# EAGLE library part CY7C68013-100TQFP (library cypress-fx2)
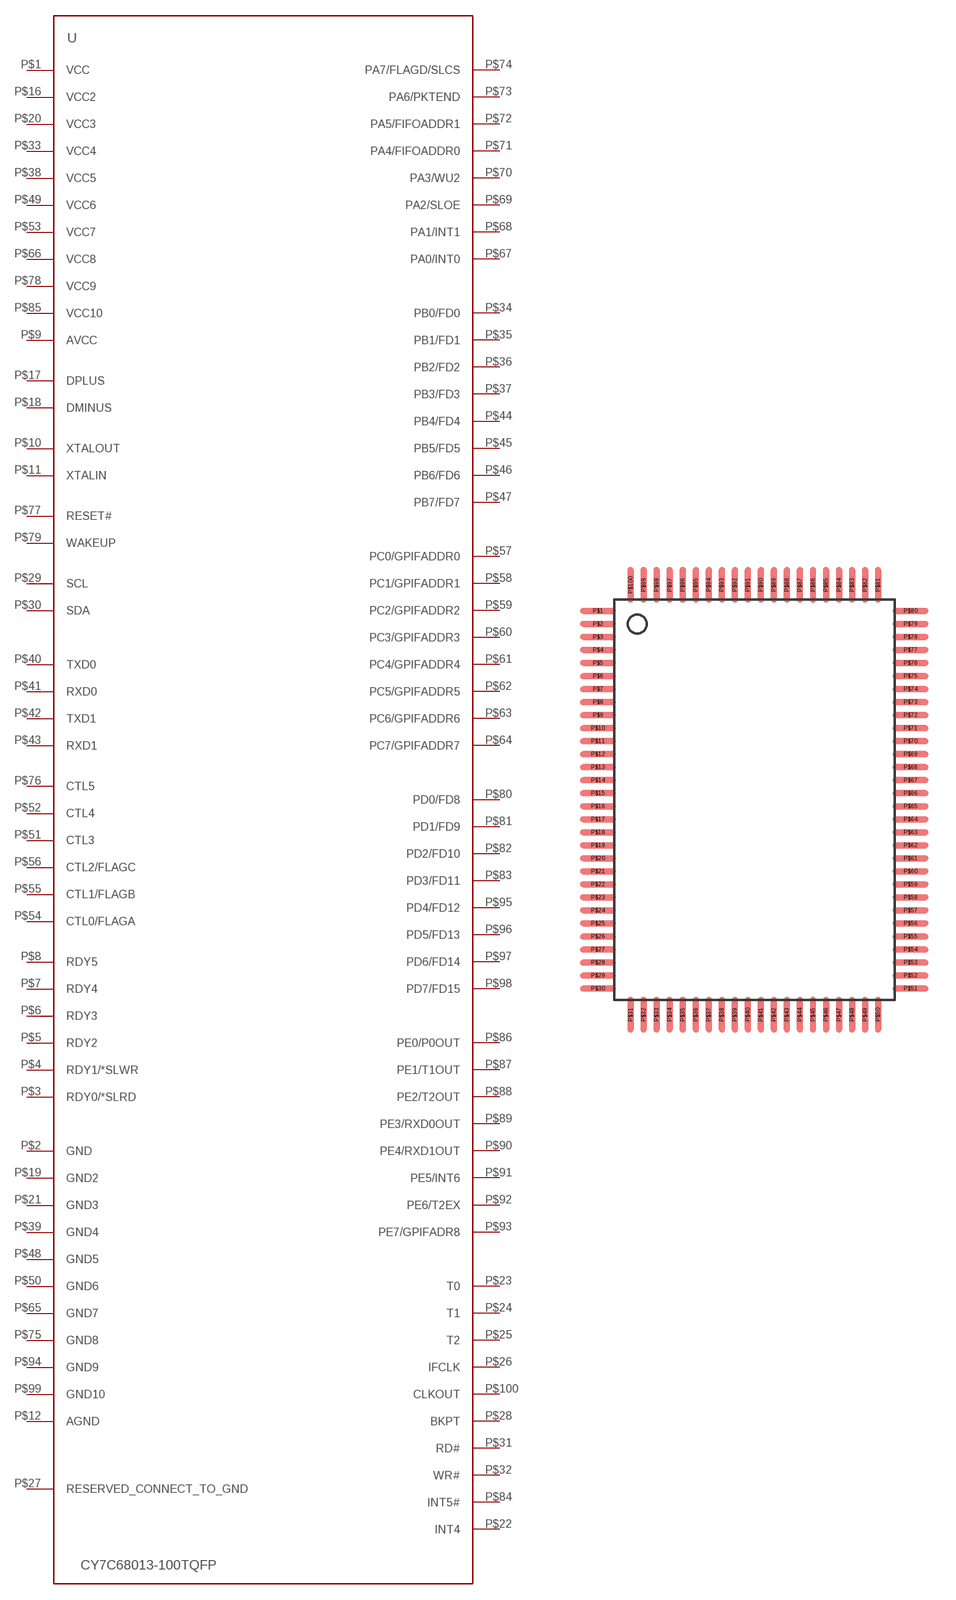
[diagram p2: symbol with the pads of TQFP-100; footprint TQFP-100]

Designator prefix U

## CY7C68013-100TQFP  [TQFP-100]
P$1  VCC
P$2  GND
P$3  RDY0/*SLRD
P$4  RDY1/*SLWR
P$5  RDY2
P$6  RDY3
P$7  RDY4
P$8  RDY5
P$9  AVCC
P$10  XTALOUT
P$11  XTALIN
P$12  AGND
P$16  VCC2
P$17  DPLUS
P$18  DMINUS
P$19  GND2
P$20  VCC3
P$21  GND3
P$22  INT4
P$23  T0
P$24  T1
P$25  T2
P$26  IFCLK
P$27  RESERVED_CONNECT_TO_GND
P$28  BKPT
P$29  SCL
P$30  SDA
P$31  RD#
P$32  WR#
P$33  VCC4
P$34  PB0/FD0
P$35  PB1/FD1
P$36  PB2/FD2
P$37  PB3/FD3
P$38  VCC5
P$39  GND4
P$40  TXD0
P$41  RXD0
P$42  TXD1
P$43  RXD1
P$44  PB4/FD4
P$45  PB5/FD5
P$46  PB6/FD6
P$47  PB7/FD7
P$48  GND5
P$49  VCC6
P$50  GND6
P$51  CTL3
P$52  CTL4
P$53  VCC7
P$54  CTL0/FLAGA
P$55  CTL1/FLAGB
P$56  CTL2/FLAGC
P$57  PC0/GPIFADDR0
P$58  PC1/GPIFADDR1
P$59  PC2/GPIFADDR2
P$60  PC3/GPIFADDR3
P$61  PC4/GPIFADDR4
P$62  PC5/GPIFADDR5
P$63  PC6/GPIFADDR6
P$64  PC7/GPIFADDR7
P$65  GND7
P$66  VCC8
P$67  PA0/INT0
P$68  PA1/INT1
P$69  PA2/SLOE
P$70  PA3/WU2
P$71  PA4/FIFOADDR0
P$72  PA5/FIFOADDR1
P$73  PA6/PKTEND
P$74  PA7/FLAGD/SLCS
P$75  GND8
P$76  CTL5
P$77  RESET#
P$78  VCC9
P$79  WAKEUP
P$80  PD0/FD8
P$81  PD1/FD9
P$82  PD2/FD10
P$83  PD3/FD11
P$84  INT5#
P$85  VCC10
P$86  PE0/P0OUT
P$87  PE1/T1OUT
P$88  PE2/T2OUT
P$89  PE3/RXD0OUT
P$90  PE4/RXD1OUT
P$91  PE5/INT6
P$92  PE6/T2EX
P$93  PE7/GPIFADR8
P$94  GND9
P$95  PD4/FD12
P$96  PD5/FD13
P$97  PD6/FD14
P$98  PD7/FD15
P$99  GND10
P$100  CLKOUT

## Footprint TQFP-100 (pad centres in mm)
smd 1.8 x 0.3: P$1 -7.8,9.425; P$2 -7.8,8.775; P$3 -7.8,8.125; P$4 -7.8,7.475; P$5 -7.8,6.825; P$6 -7.8,6.175; P$7 -7.8,5.525; P$8 -7.8,4.875; P$9 -7.8,4.225; P$10 -7.8,3.575; P$11 -7.8,2.925; P$12 -7.8,2.275; P$13 -7.8,1.625; P$14 -7.8,0.975; P$15 -7.8,0.325; P$16 -7.8,-0.325; P$17 -7.8,-0.975; P$18 -7.8,-1.625; P$19 -7.8,-2.275; P$20 -7.8,-2.925; P$21 -7.8,-3.575; P$22 -7.8,-4.225; P$23 -7.8,-4.875; P$24 -7.8,-5.525; P$25 -7.8,-6.175; P$26 -7.8,-6.825; P$27 -7.8,-7.475; P$28 -7.8,-8.125; P$29 -7.8,-8.775; P$30 -7.8,-9.425; P$51 7.8,-9.425; P$52 7.8,-8.775; P$53 7.8,-8.125; P$54 7.8,-7.475; P$55 7.8,-6.825; P$56 7.8,-6.175; P$57 7.8,-5.525; P$58 7.8,-4.875; P$59 7.8,-4.225; P$60 7.8,-3.575; P$61 7.8,-2.925; P$62 7.8,-2.275; P$63 7.8,-1.625; P$64 7.8,-0.975; P$65 7.8,-0.325; P$66 7.8,0.325; P$67 7.8,0.975; P$68 7.8,1.625; P$69 7.8,2.275; P$70 7.8,2.925; P$71 7.8,3.575; P$72 7.8,4.225; P$73 7.8,4.875; P$74 7.8,5.525; P$75 7.8,6.175; P$76 7.8,6.825; P$77 7.8,7.475; P$78 7.8,8.125; P$79 7.8,8.775; P$80 7.8,9.425
smd 0.3 x 1.8: P$31 -6.175,-10.725; P$32 -5.525,-10.725; P$33 -4.875,-10.725; P$34 -4.225,-10.725; P$35 -3.575,-10.725; P$36 -2.925,-10.725; P$37 -2.275,-10.725; P$38 -1.625,-10.725; P$39 -0.975,-10.725; P$40 -0.325,-10.725; P$41 0.325,-10.725; P$42 0.975,-10.725; P$43 1.625,-10.725; P$44 2.275,-10.725; P$45 2.925,-10.725; P$46 3.575,-10.725; P$47 4.225,-10.725; P$48 4.875,-10.725; P$49 5.525,-10.725; P$50 6.175,-10.725; P$81 6.175,10.725; P$82 5.525,10.725; P$83 4.875,10.725; P$84 4.225,10.725; P$85 3.575,10.725; P$86 2.925,10.725; P$87 2.275,10.725; P$88 1.625,10.725; P$89 0.975,10.725; P$90 0.325,10.725; P$91 -0.325,10.725; P$92 -0.975,10.725; P$93 -1.625,10.725; P$94 -2.275,10.725; P$95 -2.925,10.725; P$96 -3.575,10.725; P$97 -4.225,10.725; P$98 -4.875,10.725; P$99 -5.525,10.725; P$100 -6.175,10.725